# EAGLE library part VS23S010C48 (library vlsi-web-e7)
1 Mbit SPI / 8-Bit Parallel Bus SRAM With integrated pattern generator.
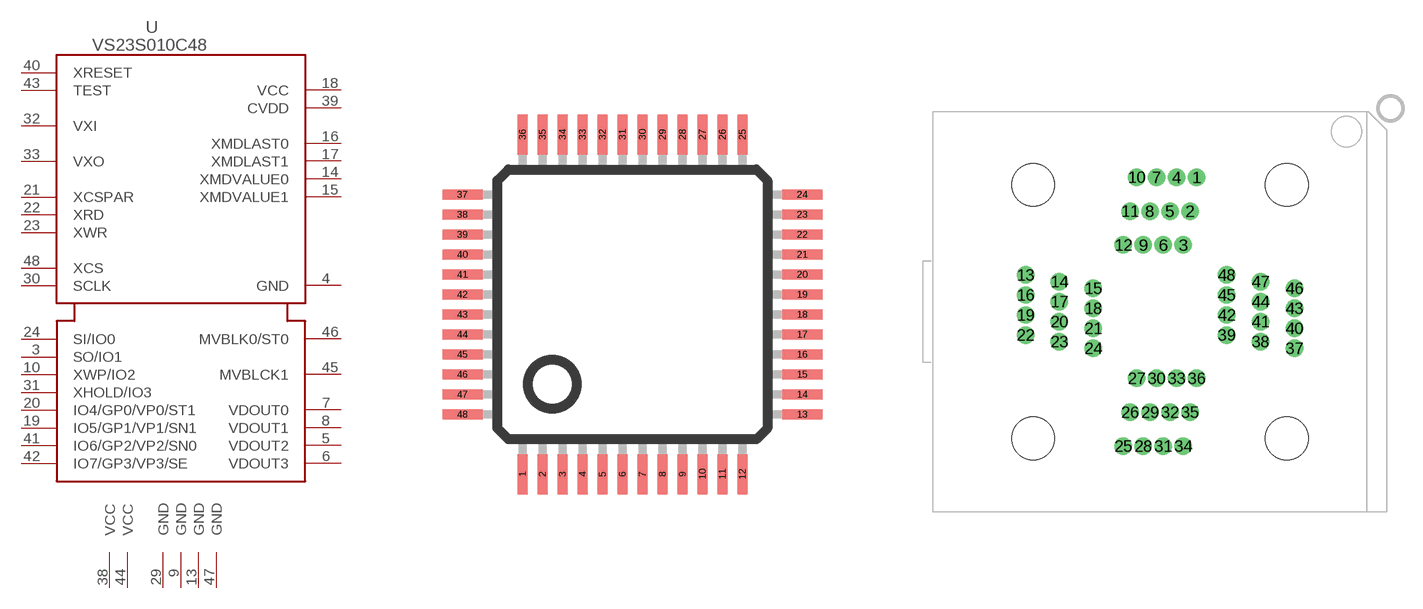
[diagram p11: symbol with the pads of LQFP48; footprints LQFP48, QFP48SCK_OK]

Designator prefix U; gates @1=VS23S010C @G2=VCC1X @G3=GND3X-1 G$2=GND1X-1 G$1=VCC1X

## VS23S010C48-L  [LQFP48]
3  @1:SO/IO1
4  @1:GND
5  @1:VDOUT2
6  @1:VDOUT3
7  @1:VDOUT0
8  @1:VDOUT1
9  @G3:GND  pwr
10  @1:XWP/IO2
13  @G3:GND  pwr
14  @1:XMDVALUE0
15  @1:XMDVALUE1
16  @1:XMDLAST0
17  @1:XMDLAST1
18  @1:VCC
19  @1:IO5/GP1/VP1/SN1
20  @1:IO4/GP0/VP0/ST1
21  @1:XCSPAR
22  @1:XRD
23  @1:XWR
24  @1:SI/IO0
29  G$2:GND  pwr
30  @1:SCLK
31  @1:XHOLD/IO3
32  @1:VXI
33  @1:VXO
38  @G2:VCC  pwr
39  @1:CVDD
40  @1:XRESET
41  @1:IO6/GP2/VP2/SN0
42  @1:IO7/GP3/VP3/SE
43  @1:TEST
44  G$1:VCC  pwr
45  @1:MVBLCK1
46  @1:MVBLK0/ST0
47  @G3:GND  pwr
48  @1:XCS

## VS23S010C48-SCT84  [QFP48SCK_OK]
Pads as for LQFP48

## Footprint LQFP48 (pad centres in mm)
48-pin plastic QFP (LQFP,MQFP,PQFP)
smd 0.25 x 1: 1 -2.75,-4.25; 2 -2.25,-4.25; 3 -1.75,-4.25; 4 -1.25,-4.25; 5 -0.75,-4.25; 6 -0.25,-4.25; 7 0.25,-4.25; 8 0.75,-4.25; 9 1.25,-4.25; 10 1.75,-4.25; 11 2.25,-4.25; 12 2.75,-4.25; 25 2.75,4.25; 26 2.25,4.25; 27 1.75,4.25; 28 1.25,4.25; 29 0.75,4.25; 30 0.25,4.25; 31 -0.25,4.25; 32 -0.75,4.25; 33 -1.25,4.25; 34 -1.75,4.25; 35 -2.25,4.25; 36 -2.75,4.25
smd 1 x 0.25: 13 4.25,-2.75; 14 4.25,-2.25; 15 4.25,-1.75; 16 4.25,-1.25; 17 4.25,-0.75; 18 4.25,-0.25; 19 4.25,0.25; 20 4.25,0.75; 21 4.25,1.25; 22 4.25,1.75; 23 4.25,2.25; 24 4.25,2.75; 37 -4.25,2.75; 38 -4.25,2.25; 39 -4.25,1.75; 40 -4.25,1.25; 41 -4.25,0.75; 42 -4.25,0.25; 43 -4.25,-0.25; 44 -4.25,-0.75; 45 -4.25,-1.25; 46 -4.25,-1.75; 47 -4.25,-2.25; 48 -4.25,-2.75

## Footprint QFP48SCK_OK (pad centres in mm)
Socket for QFP-48
drill 0.8: 1 2.75,10.08; 2 2.25,7.54; 3 1.75,5; 4 1.25,10.08; 5 0.75,7.54; 6 0.25,5; 7 -0.25,10.08; 8 -0.75,7.54; 9 -1.25,5; 10 -1.75,10.08; 11 -2.25,7.54; 12 -2.75,5; 13 -10.08,2.75; 14 -7.54,2.25; 15 -5,1.75; 16 -10.08,1.25; 17 -7.54,0.75; 18 -5,0.25; 19 -10.08,-0.25; 20 -7.54,-0.75; 21 -5,-1.25; 22 -10.08,-1.75; 23 -7.54,-2.25; 24 -5,-2.75; 25 -2.75,-10.08; 26 -2.25,-7.54; 27 -1.75,-5; 28 -1.25,-10.08; 29 -0.75,-7.54; 30 -0.25,-5; 31 0.25,-10.08; 32 0.75,-7.54; 33 1.25,-5; 34 1.75,-10.08; 35 2.25,-7.54; 36 2.75,-5; 37 10.08,-2.75; 38 7.54,-2.25; 39 5,-1.75; 40 10.08,-1.25; 41 7.54,-0.75; 42 5,-0.25; 43 10.08,0.25; 44 7.54,0.75; 45 5,1.25; 46 10.08,1.75; 47 7.54,2.25; 48 5,2.75
hole 3.2 at 9.5,9.5
hole 3.2 at 9.5,-9.5
hole 3.2 at -9.5,-9.5
hole 3.2 at -9.5,9.5